# EAGLE library part CHARLCD (library pizaid)
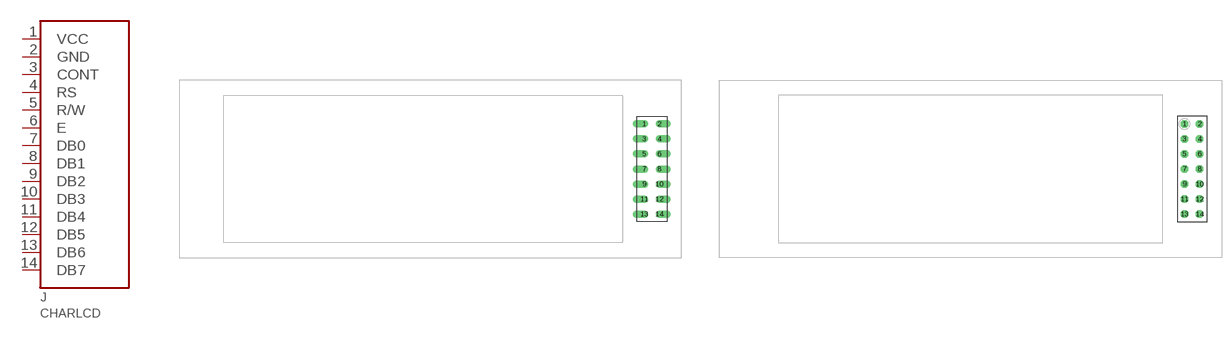
[diagram p3: symbol with the pads of CHARLCD-7X2-LONG; footprints CHARLCD-7X2-LONG, CHARLCD-7X2]

Designator prefix J

## CHARLCD-LONG  [CHARLCD-7X2-LONG]
1  VCC
2  GND
3  CONT
4  RS
5  R/W
6  E
7  DB0
8  DB1
9  DB2
10  DB3
11  DB4
12  DB5
13  DB6
14  DB7

## CHARLCD  [CHARLCD-7X2]
Pads as for CHARLCD-7X2-LONG

## Footprint CHARLCD-7X2-LONG (pad centres in mm)
drill 0.8 offset: 1 -1.27,7.62; 2 1.27,7.62; 3 -1.27,5.08; 4 1.27,5.08; 5 -1.27,2.54; 6 1.27,2.54; 7 -1.27,0; 8 1.27,0; 9 -1.27,-2.54; 10 1.27,-2.54; 11 -1.27,-5.08; 12 1.27,-5.08; 13 -1.27,-7.62; 14 1.27,-7.62

## Footprint CHARLCD-7X2 (pad centres in mm)
drill 0.8 octagon: 1 -1.27,7.62; 2 1.27,7.62; 3 -1.27,5.08; 4 1.27,5.08; 5 -1.27,2.54; 6 1.27,2.54; 7 -1.27,0; 8 1.27,0; 9 -1.27,-2.54; 10 1.27,-2.54; 11 -1.27,-5.08; 12 1.27,-5.08; 13 -1.27,-7.62; 14 1.27,-7.62